# Altium integrated library TI Power Management Linear Regulator Dual Channel LDO.IntLib: 299 symbols (part 5 of 15)
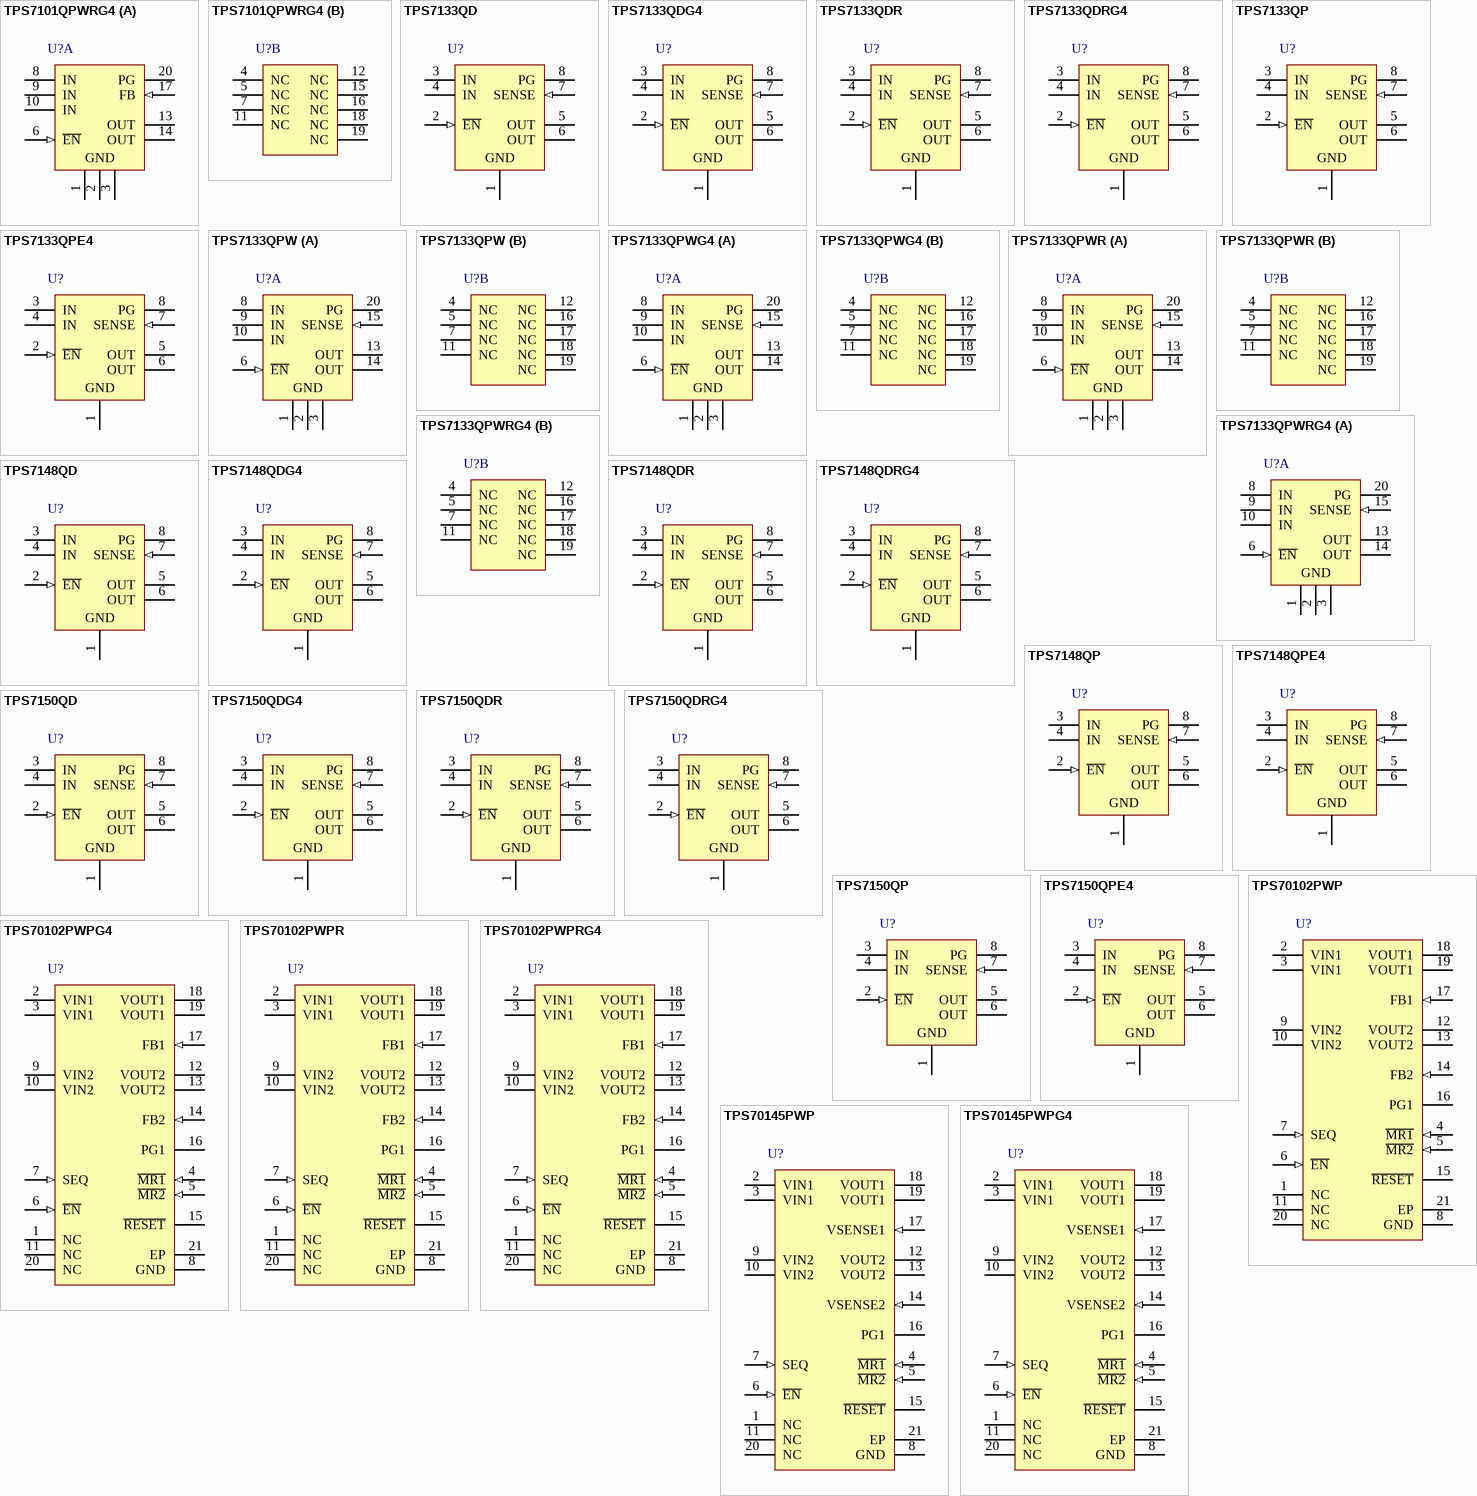
[diagram p15: symbols TPS7101QPWRG4 to TPS70145PWPG4]

## TPS7133QPWR
designator U?
PMOS LDO, 500 mA, 3.77 to 10 V Input, 20-pin TSSOP (PW), -40 to 125 degC, Green (RoHS & no Sb/Br); Manufacturer: Texas Instruments; PartNumber: TPS7133QPWR; Iout(Max)(A): 0.5; Iq(Typ)(mA): 0.28; SubFamily: Dual Channel LDO; Vdo(Typ)(mV): 235; Vin(Max)(V): 10; Vin(Min)(V): 3.77; Vout(Max)(V): 3.3; DatasheetVersion: SLVS092G; PackageVersion: 4040064-5/G; PackageReference: PW20; PackageDescription: 20-Pin Plastic Small Outline, Body 6.5 x 4.4 mm, 0.65 mm Pitch; Supplier 1: Digi-Key; Supplier Part Number 1: 296-8047-2-ND; Supplier 2: Digi-Key; Supplier Part Number 2: 296-8047-1-ND; Supplier 3: Digi-Key; Supplier Part Number 3: 296-8047-6-ND; Supplier 4: Mouser; Supplier Part Number 4: 595-TPS7133QPWR; Eco-Plan: Green (RoHS & no Sb/Br); Vout(Min)(V): 3.3; Mounting Technology: Surface Mount; Code_JEDEC: MO-153; ComponentLink1Description: Manufacturer URL; ComponentLink1URL: http://www.ti.com/; ComponentLink2Description: Datasheet; ComponentLink2URL: http://www.ti.com/general/docs/lit/getliterature.tsp?genericPartNumber=TPS7133&fileType=pdf; ComponentLink3Description: Package Specification; ComponentLink3URL: http://www.ti.com.cn/cn/lit/ml/mpds362/mpds362.pdf
footprint TI-PW20_N (SOP, 20-Leads, Body 6.5x4.4mm, Pitch 0.65mm, IPC Medium Density)
footprint TI-PW20_L (SOP, 20-Leads, Body 6.5x4.4mm, Pitch 0.65mm, IPC High Density)
footprint TI-PW20_M (SOP, 20-Leads, Body 6.5x4.4mm, Pitch 0.65mm, IPC Low Density)
part A pins: 1 GND (power), 2 GND (power), 3 GND (power), 6 ~{EN} (in), 8 IN (power), 9 IN (power), 10 IN (power), 13 OUT (power), 14 OUT (power), 15 SENSE (in), 20 PG (hiz)
part B pins: 4 NC, 5 NC, 7 NC, 11 NC, 12 NC, 16 NC, 17 NC, 18 NC, 19 NC

## TPS7133QPWRG4
designator U?
PMOS LDO, 500 mA, 3.77 to 10 V Input, 20-pin TSSOP (PW), -40 to 125 degC, Green (RoHS & no Sb/Br); Manufacturer: Texas Instruments; PartNumber: TPS7133QPWRG4; Iout(Max)(A): 0.5; Iq(Typ)(mA): 0.28; SubFamily: Dual Channel LDO; Vdo(Typ)(mV): 235; Vin(Max)(V): 10; Vin(Min)(V): 3.77; Vout(Max)(V): 3.3; DatasheetVersion: SLVS092G; PackageVersion: 4040064-5/G; PackageReference: PW20; PackageDescription: 20-Pin Plastic Small Outline, Body 6.5 x 4.4 mm, 0.65 mm Pitch; Supplier 1: Digi-Key; Supplier Part Number 1: TPS7133QPWRG4-ND; Supplier 2: Mouser; Supplier Part Number 2: 595-TPS7133QPWRG4; Eco-Plan: Green (RoHS & no Sb/Br); Vout(Min)(V): 3.3; Mounting Technology: Surface Mount; Code_JEDEC: MO-153; ComponentLink1Description: Manufacturer URL; ComponentLink1URL: http://www.ti.com/; ComponentLink2Description: Datasheet; ComponentLink2URL: http://www.ti.com/general/docs/lit/getliterature.tsp?genericPartNumber=TPS7133&fileType=pdf; ComponentLink3Description: Package Specification; ComponentLink3URL: http://www.ti.com.cn/cn/lit/ml/mpds362/mpds362.pdf
footprint TI-PW20_N (SOP, 20-Leads, Body 6.5x4.4mm, Pitch 0.65mm, IPC Medium Density)
footprint TI-PW20_L (SOP, 20-Leads, Body 6.5x4.4mm, Pitch 0.65mm, IPC High Density)
footprint TI-PW20_M (SOP, 20-Leads, Body 6.5x4.4mm, Pitch 0.65mm, IPC Low Density)
part A pins: 1 GND (power), 2 GND (power), 3 GND (power), 6 ~{EN} (in), 8 IN (power), 9 IN (power), 10 IN (power), 13 OUT (power), 14 OUT (power), 15 SENSE (in), 20 PG (hiz)
part B pins: 4 NC, 5 NC, 7 NC, 11 NC, 12 NC, 16 NC, 17 NC, 18 NC, 19 NC

## TPS7148QD
designator U?
PMOS LDO, 500 mA, 5.2 to 10 V Input, 8-pin SOIC (D), -40 to 125 degC, Green (RoHS & no Sb/Br); Manufacturer: Texas Instruments; PartNumber: TPS7148QD; Iout(Max)(A): 0.5; Iq(Typ)(mA): 0.28; SubFamily: Dual Channel LDO; Vdo(Typ)(mV): 235; Vin(Max)(V): 10; Vin(Min)(V): 5.2; Vout(Max)(V): 4.8; DatasheetVersion: SLVS092G; PackageVersion: 4040047-3/M; PackageReference: D8; PackageDescription: 8-Pin Plastic Small Outline, Body 4.9 x 3.9 mm, Pitch 1.27 mm; Supplier 1: Digi-Key; Supplier Part Number 1: 296-1961-5-ND; Supplier 2: Newark; Supplier Part Number 2: 83F9172; Supplier 3: Mouser; Supplier Part Number 3: 595-TPS7148QD; Eco-Plan: Green (RoHS & no Sb/Br); Vout(Min)(V): 4.8; Mounting Technology: Surface Mount; Code_JEDEC: MS-012; ComponentLink1Description: Manufacturer URL; ComponentLink1URL: http://www.ti.com/; ComponentLink2Description: Datasheet; ComponentLink2URL: http://www.ti.com/general/docs/lit/getliterature.tsp?genericPartNumber=TPS7148&fileType=pdf; ComponentLink3Description: Package Specification; ComponentLink3URL: http://www.ti.com/litv/pdf/msoi002j
footprint TI-D8_N (SOIC, 8-Leads, Body 4.9x3.9mm, Pitch 1.27mm, IPC Medium Density)
footprint TI-D8_L (SOIC, 8-Leads, Body 4.9x3.9mm, Pitch 1.27mm, IPC High Density)
footprint TI-D8_M (SOIC, 8-Leads, Body 4.9x3.9mm, Pitch 1.27mm, IPC Low Density)
pins: 1 GND (power), 2 ~{EN} (in), 3 IN (power), 4 IN (power), 5 OUT (power), 6 OUT (power), 7 SENSE (in), 8 PG (hiz)

## TPS7148QDG4
designator U?
PMOS LDO, 500 mA, 5.2 to 10 V Input, 8-pin SOIC (D), -40 to 125 degC, Green (RoHS & no Sb/Br); Manufacturer: Texas Instruments; PartNumber: TPS7148QDG4; Iout(Max)(A): 0.5; Iq(Typ)(mA): 0.28; SubFamily: Dual Channel LDO; Vdo(Typ)(mV): 235; Vin(Max)(V): 10; Vin(Min)(V): 5.2; Vout(Max)(V): 4.8; DatasheetVersion: SLVS092G; PackageVersion: 4040047-3/M; PackageReference: D8; PackageDescription: 8-Pin Plastic Small Outline, Body 4.9 x 3.9 mm, Pitch 1.27 mm; Supplier 1: Digi-Key; Supplier Part Number 1: TPS7148QDG4-ND; Supplier 2: Mouser; Supplier Part Number 2: 595-TPS7148QDG4; Eco-Plan: Green (RoHS & no Sb/Br); Vout(Min)(V): 4.8; Mounting Technology: Surface Mount; Code_JEDEC: MS-012; ComponentLink1Description: Manufacturer URL; ComponentLink1URL: http://www.ti.com/; ComponentLink2Description: Datasheet; ComponentLink2URL: http://www.ti.com/general/docs/lit/getliterature.tsp?genericPartNumber=TPS7148&fileType=pdf; ComponentLink3Description: Package Specification; ComponentLink3URL: http://www.ti.com/litv/pdf/msoi002j
footprint TI-D8_N (SOIC, 8-Leads, Body 4.9x3.9mm, Pitch 1.27mm, IPC Medium Density)
footprint TI-D8_L (SOIC, 8-Leads, Body 4.9x3.9mm, Pitch 1.27mm, IPC High Density)
footprint TI-D8_M (SOIC, 8-Leads, Body 4.9x3.9mm, Pitch 1.27mm, IPC Low Density)
pins: 1 GND (power), 2 ~{EN} (in), 3 IN (power), 4 IN (power), 5 OUT (power), 6 OUT (power), 7 SENSE (in), 8 PG (hiz)

## TPS7148QDR
designator U?
PMOS LDO, 500 mA, 5.2 to 10 V Input, 8-pin SOIC (D), -40 to 125 degC, Green (RoHS & no Sb/Br); Manufacturer: Texas Instruments; PartNumber: TPS7148QDR; Iout(Max)(A): 0.5; Iq(Typ)(mA): 0.28; SubFamily: Dual Channel LDO; Vdo(Typ)(mV): 235; Vin(Max)(V): 10; Vin(Min)(V): 5.2; Vout(Max)(V): 4.8; DatasheetVersion: SLVS092G; PackageVersion: 4040047-3/M; PackageReference: D8; PackageDescription: 8-Pin Plastic Small Outline, Body 4.9 x 3.9 mm, Pitch 1.27 mm; Supplier 1: Digi-Key; Supplier Part Number 1: TPS7148QDR-ND; Supplier 2: Farnell; Supplier Part Number 2: 1412669; Supplier 3: Mouser; Supplier Part Number 3: 595-TPS7148QDR; Eco-Plan: Green (RoHS & no Sb/Br); Vout(Min)(V): 4.8; Mounting Technology: Surface Mount; Code_JEDEC: MS-012; ComponentLink1Description: Manufacturer URL; ComponentLink1URL: http://www.ti.com/; ComponentLink2Description: Datasheet; ComponentLink2URL: http://www.ti.com/general/docs/lit/getliterature.tsp?genericPartNumber=TPS7148&fileType=pdf; ComponentLink3Description: Package Specification; ComponentLink3URL: http://www.ti.com/litv/pdf/msoi002j
footprint TI-D8_N (SOIC, 8-Leads, Body 4.9x3.9mm, Pitch 1.27mm, IPC Medium Density)
footprint TI-D8_L (SOIC, 8-Leads, Body 4.9x3.9mm, Pitch 1.27mm, IPC High Density)
footprint TI-D8_M (SOIC, 8-Leads, Body 4.9x3.9mm, Pitch 1.27mm, IPC Low Density)
pins: 1 GND (power), 2 ~{EN} (in), 3 IN (power), 4 IN (power), 5 OUT (power), 6 OUT (power), 7 SENSE (in), 8 PG (hiz)

## TPS7148QDRG4
designator U?
PMOS LDO, 500 mA, 5.2 to 10 V Input, 8-pin SOIC (D), -40 to 125 degC, Green (RoHS & no Sb/Br); Manufacturer: Texas Instruments; PartNumber: TPS7148QDRG4; Iout(Max)(A): 0.5; Iq(Typ)(mA): 0.28; SubFamily: Dual Channel LDO; Vdo(Typ)(mV): 235; Vin(Max)(V): 10; Vin(Min)(V): 5.2; Vout(Max)(V): 4.8; DatasheetVersion: SLVS092G; PackageVersion: 4040047-3/M; PackageReference: D8; PackageDescription: 8-Pin Plastic Small Outline, Body 4.9 x 3.9 mm, Pitch 1.27 mm; Supplier 1: Digi-Key; Supplier Part Number 1: TPS7148QDRG4-ND; Supplier 2: Mouser; Supplier Part Number 2: 595-TPS7148QDRG4; Eco-Plan: Green (RoHS & no Sb/Br); Vout(Min)(V): 4.8; Mounting Technology: Surface Mount; Code_JEDEC: MS-012; ComponentLink1Description: Manufacturer URL; ComponentLink1URL: http://www.ti.com/; ComponentLink2Description: Datasheet; ComponentLink2URL: http://www.ti.com/general/docs/lit/getliterature.tsp?genericPartNumber=TPS7148&fileType=pdf; ComponentLink3Description: Package Specification; ComponentLink3URL: http://www.ti.com/litv/pdf/msoi002j
footprint TI-D8_N (SOIC, 8-Leads, Body 4.9x3.9mm, Pitch 1.27mm, IPC Medium Density)
footprint TI-D8_L (SOIC, 8-Leads, Body 4.9x3.9mm, Pitch 1.27mm, IPC High Density)
footprint TI-D8_M (SOIC, 8-Leads, Body 4.9x3.9mm, Pitch 1.27mm, IPC Low Density)
pins: 1 GND (power), 2 ~{EN} (in), 3 IN (power), 4 IN (power), 5 OUT (power), 6 OUT (power), 7 SENSE (in), 8 PG (hiz)

## TPS7148QP
designator U?
PMOS LDO, 500 mA, 5.2 to 10 V Input, 8-pin PDIP (P), -40 to 125 degC, Pb-Free (RoHS); Manufacturer: Texas Instruments; PartNumber: TPS7148QP; Iout(Max)(A): 0.5; Iq(Typ)(mA): 0.28; SubFamily: Dual Channel LDO; Vdo(Typ)(mV): 235; Vin(Max)(V): 10; Vin(Min)(V): 5.2; Vout(Max)(V): 4.8; DatasheetVersion: SLVS092G; PackageVersion: 4040082/E; PackageReference: P8; PackageDescription: 8-Pin Plastic In-Line, Body 9.59 x 6.35 mm, 2.54 mm Pitch; Supplier 1: Digi-Key; Supplier Part Number 1: 296-8048-5-ND; Supplier 2: Mouser; Supplier Part Number 2: 595-TPS7148QP; Eco-Plan: Pb-Free (RoHS); Vout(Min)(V): 4.8; Mounting Technology: Through Hole; Code_JEDEC: MS-001; ComponentLink1Description: Manufacturer URL; ComponentLink1URL: http://www.ti.com/; ComponentLink2Description: Datasheet; ComponentLink2URL: http://www.ti.com/general/docs/lit/getliterature.tsp?genericPartNumber=TPS7148&fileType=pdf; ComponentLink3Description: Package Specification; ComponentLink3URL: http://www.ti.com/litv/pdf/mpdi001b
footprint TI-P8 (DIP, 8-Leads, Body 9.59x6.35mm, Pitch 2.54mm)
pins: 1 GND (power), 2 ~{EN} (in), 3 IN (power), 4 IN (power), 5 OUT (power), 6 OUT (power), 7 SENSE (in), 8 PG (hiz)

## TPS7148QPE4
designator U?
PMOS LDO, 500 mA, 5.2 to 10 V Input, 8-pin PDIP (P), -40 to 125 degC, Pb-Free (RoHS); Manufacturer: Texas Instruments; PartNumber: TPS7148QPE4; Iout(Max)(A): 0.5; Iq(Typ)(mA): 0.28; SubFamily: Dual Channel LDO; Vdo(Typ)(mV): 235; Vin(Max)(V): 10; Vin(Min)(V): 5.2; Vout(Max)(V): 4.8; DatasheetVersion: SLVS092G; PackageVersion: 4040082/E; PackageReference: P8; PackageDescription: 8-Pin Plastic In-Line, Body 9.59 x 6.35 mm, 2.54 mm Pitch; Supplier 1: Digi-Key; Supplier Part Number 1: TPS7148QPE4-ND; Supplier 2: Mouser; Supplier Part Number 2: 595-TPS7148QPE4; Eco-Plan: Pb-Free (RoHS); Vout(Min)(V): 4.8; Mounting Technology: Through Hole; Code_JEDEC: MS-001; ComponentLink1Description: Manufacturer URL; ComponentLink1URL: http://www.ti.com/; ComponentLink2Description: Datasheet; ComponentLink2URL: http://www.ti.com/general/docs/lit/getliterature.tsp?genericPartNumber=TPS7148&fileType=pdf; ComponentLink3Description: Package Specification; ComponentLink3URL: http://www.ti.com/litv/pdf/mpdi001b
footprint TI-P8 (DIP, 8-Leads, Body 9.59x6.35mm, Pitch 2.54mm)
pins: 1 GND (power), 2 ~{EN} (in), 3 IN (power), 4 IN (power), 5 OUT (power), 6 OUT (power), 7 SENSE (in), 8 PG (hiz)

## TPS7150QD
designator U?
PMOS LDO, 500 mA, 5.3 to 10 V Input, 8-pin SOIC (D), -40 to 125 degC, Green (RoHS & no Sb/Br); Manufacturer: Texas Instruments; PartNumber: TPS7150QD; Iout(Max)(A): 0.5; Iq(Typ)(mA): 0.28; SubFamily: Dual Channel LDO; Vdo(Typ)(mV): 235; Vin(Max)(V): 10; Vin(Min)(V): 5.3; Vout(Max)(V): 5; DatasheetVersion: SLVS092G; PackageVersion: 4040047-3/M; PackageReference: D8; PackageDescription: 8-Pin Plastic Small Outline, Body 4.9 x 3.9 mm, Pitch 1.27 mm; Supplier 1: Digi-Key; Supplier Part Number 1: 296-8049-5-ND; Supplier 2: Newark; Supplier Part Number 2: 67K1292; Supplier 3: Mouser; Supplier Part Number 3: 595-TPS7150QD; Eco-Plan: Green (RoHS & no Sb/Br); Vout(Min)(V): 5; Mounting Technology: Surface Mount; Code_JEDEC: MS-012; ComponentLink1Description: Manufacturer URL; ComponentLink1URL: http://www.ti.com/; ComponentLink2Description: Datasheet; ComponentLink2URL: http://www.ti.com/general/docs/lit/getliterature.tsp?genericPartNumber=TPS7150&fileType=pdf; ComponentLink3Description: Package Specification; ComponentLink3URL: http://www.ti.com/litv/pdf/msoi002j
footprint TI-D8_N (SOIC, 8-Leads, Body 4.9x3.9mm, Pitch 1.27mm, IPC Medium Density)
footprint TI-D8_L (SOIC, 8-Leads, Body 4.9x3.9mm, Pitch 1.27mm, IPC High Density)
footprint TI-D8_M (SOIC, 8-Leads, Body 4.9x3.9mm, Pitch 1.27mm, IPC Low Density)
pins: 1 GND (power), 2 ~{EN} (in), 3 IN (power), 4 IN (power), 5 OUT (power), 6 OUT (power), 7 SENSE (in), 8 PG (hiz)

## TPS7150QDG4
designator U?
PMOS LDO, 500 mA, 5.3 to 10 V Input, 8-pin SOIC (D), -40 to 125 degC, Green (RoHS & no Sb/Br); Manufacturer: Texas Instruments; PartNumber: TPS7150QDG4; Iout(Max)(A): 0.5; Iq(Typ)(mA): 0.28; SubFamily: Dual Channel LDO; Vdo(Typ)(mV): 235; Vin(Max)(V): 10; Vin(Min)(V): 5.3; Vout(Max)(V): 5; DatasheetVersion: SLVS092G; PackageVersion: 4040047-3/M; PackageReference: D8; PackageDescription: 8-Pin Plastic Small Outline, Body 4.9 x 3.9 mm, Pitch 1.27 mm; Supplier 1: Digi-Key; Supplier Part Number 1: TPS7150QDG4-ND; Supplier 2: Newark; Supplier Part Number 2: 58K6960; Supplier 3: Mouser; Supplier Part Number 3: 595-TPS7150QDG4; Eco-Plan: Green (RoHS & no Sb/Br); Vout(Min)(V): 5; Mounting Technology: Surface Mount; Code_JEDEC: MS-012; ComponentLink1Description: Manufacturer URL; ComponentLink1URL: http://www.ti.com/; ComponentLink2Description: Datasheet; ComponentLink2URL: http://www.ti.com/general/docs/lit/getliterature.tsp?genericPartNumber=TPS7150&fileType=pdf; ComponentLink3Description: Package Specification; ComponentLink3URL: http://www.ti.com/litv/pdf/msoi002j
footprint TI-D8_N (SOIC, 8-Leads, Body 4.9x3.9mm, Pitch 1.27mm, IPC Medium Density)
footprint TI-D8_L (SOIC, 8-Leads, Body 4.9x3.9mm, Pitch 1.27mm, IPC High Density)
footprint TI-D8_M (SOIC, 8-Leads, Body 4.9x3.9mm, Pitch 1.27mm, IPC Low Density)
pins: 1 GND (power), 2 ~{EN} (in), 3 IN (power), 4 IN (power), 5 OUT (power), 6 OUT (power), 7 SENSE (in), 8 PG (hiz)

## TPS7150QDR
designator U?
PMOS LDO, 500 mA, 5.3 to 10 V Input, 8-pin SOIC (D), -40 to 125 degC, Green (RoHS & no Sb/Br); Manufacturer: Texas Instruments; PartNumber: TPS7150QDR; Iout(Max)(A): 0.5; Iq(Typ)(mA): 0.28; SubFamily: Dual Channel LDO; Vdo(Typ)(mV): 235; Vin(Max)(V): 10; Vin(Min)(V): 5.3; Vout(Max)(V): 5; DatasheetVersion: SLVS092G; PackageVersion: 4040047-3/M; PackageReference: D8; PackageDescription: 8-Pin Plastic Small Outline, Body 4.9 x 3.9 mm, Pitch 1.27 mm; Supplier 1: Digi-Key; Supplier Part Number 1: TPS7150QDR-ND; Supplier 2: Newark; Supplier Part Number 2: 77C0810; Supplier 3: Mouser; Supplier Part Number 3: 595-TPS7150QDR; Eco-Plan: Green (RoHS & no Sb/Br); Vout(Min)(V): 5; Mounting Technology: Surface Mount; Code_JEDEC: MS-012; ComponentLink1Description: Manufacturer URL; ComponentLink1URL: http://www.ti.com/; ComponentLink2Description: Datasheet; ComponentLink2URL: http://www.ti.com/general/docs/lit/getliterature.tsp?genericPartNumber=TPS7150&fileType=pdf; ComponentLink3Description: Package Specification; ComponentLink3URL: http://www.ti.com/litv/pdf/msoi002j
footprint TI-D8_N (SOIC, 8-Leads, Body 4.9x3.9mm, Pitch 1.27mm, IPC Medium Density)
footprint TI-D8_L (SOIC, 8-Leads, Body 4.9x3.9mm, Pitch 1.27mm, IPC High Density)
footprint TI-D8_M (SOIC, 8-Leads, Body 4.9x3.9mm, Pitch 1.27mm, IPC Low Density)
pins: 1 GND (power), 2 ~{EN} (in), 3 IN (power), 4 IN (power), 5 OUT (power), 6 OUT (power), 7 SENSE (in), 8 PG (hiz)

## TPS7150QDRG4
designator U?
PMOS LDO, 500 mA, 5.3 to 10 V Input, 8-pin SOIC (D), -40 to 125 degC, Green (RoHS & no Sb/Br); Manufacturer: Texas Instruments; PartNumber: TPS7150QDRG4; Iout(Max)(A): 0.5; Iq(Typ)(mA): 0.28; SubFamily: Dual Channel LDO; Vdo(Typ)(mV): 235; Vin(Max)(V): 10; Vin(Min)(V): 5.3; Vout(Max)(V): 5; DatasheetVersion: SLVS092G; PackageVersion: 4040047-3/M; PackageReference: D8; PackageDescription: 8-Pin Plastic Small Outline, Body 4.9 x 3.9 mm, Pitch 1.27 mm; Supplier 1: Digi-Key; Supplier Part Number 1: TPS7150QDRG4-ND; Supplier 2: Newark; Supplier Part Number 2: 33K7683; Supplier 3: Mouser; Supplier Part Number 3: 595-TPS7150QDRG4; Eco-Plan: Green (RoHS & no Sb/Br); Vout(Min)(V): 5; Mounting Technology: Surface Mount; Code_JEDEC: MS-012; ComponentLink1Description: Manufacturer URL; ComponentLink1URL: http://www.ti.com/; ComponentLink2Description: Datasheet; ComponentLink2URL: http://www.ti.com/general/docs/lit/getliterature.tsp?genericPartNumber=TPS7150&fileType=pdf; ComponentLink3Description: Package Specification; ComponentLink3URL: http://www.ti.com/litv/pdf/msoi002j
footprint TI-D8_N (SOIC, 8-Leads, Body 4.9x3.9mm, Pitch 1.27mm, IPC Medium Density)
footprint TI-D8_L (SOIC, 8-Leads, Body 4.9x3.9mm, Pitch 1.27mm, IPC High Density)
footprint TI-D8_M (SOIC, 8-Leads, Body 4.9x3.9mm, Pitch 1.27mm, IPC Low Density)
pins: 1 GND (power), 2 ~{EN} (in), 3 IN (power), 4 IN (power), 5 OUT (power), 6 OUT (power), 7 SENSE (in), 8 PG (hiz)

## TPS7150QP
designator U?
PMOS LDO, 500 mA, 5.3 to 10 V Input, 8-pin PDIP (P), -40 to 125 degC, Pb-Free (RoHS); Manufacturer: Texas Instruments; PartNumber: TPS7150QP; Iout(Max)(A): 0.5; Iq(Typ)(mA): 0.28; SubFamily: Dual Channel LDO; Vdo(Typ)(mV): 235; Vin(Max)(V): 10; Vin(Min)(V): 5.3; Vout(Max)(V): 5; DatasheetVersion: SLVS092G; PackageVersion: 4040082/E; PackageReference: P8; PackageDescription: 8-Pin Plastic In-Line, Body 9.59 x 6.35 mm, 2.54 mm Pitch; Supplier 1: Digi-Key; Supplier Part Number 1: 296-8050-5-ND; Supplier 2: Newark; Supplier Part Number 2: 35K1335; Supplier 3: Mouser; Supplier Part Number 3: 595-TPS7150QP; Eco-Plan: Pb-Free (RoHS); Vout(Min)(V): 5; Mounting Technology: Through Hole; Code_JEDEC: MS-001; ComponentLink1Description: Manufacturer URL; ComponentLink1URL: http://www.ti.com/; ComponentLink2Description: Datasheet; ComponentLink2URL: http://www.ti.com/general/docs/lit/getliterature.tsp?genericPartNumber=TPS7150&fileType=pdf; ComponentLink3Description: Package Specification; ComponentLink3URL: http://www.ti.com/litv/pdf/mpdi001b
footprint TI-P8 (DIP, 8-Leads, Body 9.59x6.35mm, Pitch 2.54mm)
pins: 1 GND (power), 2 ~{EN} (in), 3 IN (power), 4 IN (power), 5 OUT (power), 6 OUT (power), 7 SENSE (in), 8 PG (hiz)

## TPS7150QPE4
designator U?
PMOS LDO, 500 mA, 5.3 to 10 V Input, 8-pin PDIP (P), -40 to 125 degC, Pb-Free (RoHS); Manufacturer: Texas Instruments; PartNumber: TPS7150QPE4; Iout(Max)(A): 0.5; Iq(Typ)(mA): 0.28; SubFamily: Dual Channel LDO; Vdo(Typ)(mV): 235; Vin(Max)(V): 10; Vin(Min)(V): 5.3; Vout(Max)(V): 5; DatasheetVersion: SLVS092G; PackageVersion: 4040082/E; PackageReference: P8; PackageDescription: 8-Pin Plastic In-Line, Body 9.59 x 6.35 mm, 2.54 mm Pitch; Supplier 1: Digi-Key; Supplier Part Number 1: TPS7150QPE4-ND; Supplier 2: Newark; Supplier Part Number 2: 24K6082; Supplier 3: Mouser; Supplier Part Number 3: 595-TPS7150QPE4; Eco-Plan: Pb-Free (RoHS); Vout(Min)(V): 5; Mounting Technology: Through Hole; Code_JEDEC: MS-001; ComponentLink1Description: Manufacturer URL; ComponentLink1URL: http://www.ti.com/; ComponentLink2Description: Datasheet; ComponentLink2URL: http://www.ti.com/general/docs/lit/getliterature.tsp?genericPartNumber=TPS7150&fileType=pdf; ComponentLink3Description: Package Specification; ComponentLink3URL: http://www.ti.com/litv/pdf/mpdi001b
footprint TI-P8 (DIP, 8-Leads, Body 9.59x6.35mm, Pitch 2.54mm)
pins: 1 GND (power), 2 ~{EN} (in), 3 IN (power), 4 IN (power), 5 OUT (power), 6 OUT (power), 7 SENSE (in), 8 PG (hiz)

## TPS70102PWP
designator U?
Dual Output LDO, 500 mA, 2.7 to 6 V Input, 20-pin HTSSOP (PWP), -40 to 125 degC, Green (RoHS & no Sb/Br); Manufacturer: Texas Instruments; PartNumber: TPS70102PWP; Iout(Max)(A): 0.5; Iout2(A): 0.2; Iq(Typ)(mA): 0.19; SubFamily: Dual Channel LDO; Vdo(Typ)(mV): 170; Vin(Max)(V): 6; Vin(Min)(V): 2.7; Vout(Max)(V): 5.5; Vout(Min)(V): 1.2; DatasheetVersion: SLVS222I; PackageVersion: 4073225-4/I; PackageReference: PWP20-3005X2005TP; PackageDescription: 20-Pin Plastic Small Outline, Body 6.50 x 4.40 mm, Pitch 0.65 mm; Supplier 1: Digi-Key; Supplier Part Number 1: 296-2652-5-ND; Supplier 2: Newark; Supplier Part Number 2: 19C9066; Supplier 3: Mouser; Supplier Part Number 3: 595-TPS70102PWP; Eco-Plan: Green (RoHS & no Sb/Br); Vout2(Max)(V): 1.2; Vout2(Min)(V): 1.2; Mounting Technology: Surface Mount; Code_JEDEC: MO-153; ComponentLink1Description: Manufacturer URL; ComponentLink1URL: http://www.ti.com/; ComponentLink2Description: Datasheet; ComponentLink2URL: http://www.ti.com/general/docs/lit/getliterature.tsp?genericPartNumber=TPS70102&fileType=pdf; ComponentLink3Description: Package Specification; ComponentLink3URL: http://www.ti.com/lit/ml/mhts001g/mhts001g.pdf
footprint TI-PWP20-3005X2005TP_N (SOP, 20-Leads, Body 6.5x4.4mm, Pitch 0.65mm, Thermal Pad 3.005 x 2.005mm, IPC Medium Density)
footprint TI-PWP20-3005X2005TP_L (SOP, 20-Leads, Body 6.5x4.4mm, Pitch 0.65mm, Thermal Pad 3.005 x 2.005mm, IPC High Density)
footprint TI-PWP20-3005X2005TP_M (SOP, 20-Leads, Body 6.5x4.4mm, Pitch 0.65mm, Thermal Pad 3.005 x 2.005mm, IPC Low Density)
pins: 1 NC "No connection", 2 VIN1 (power) "Input voltage of regulator 1", 3 VIN1 (power) "Input voltage of regulator 1", 4 ~{MR1} (in) "Manual reset input 1, active low, pulled up internally", 5 ~{MR2} (in) "Manual reset input 2, active low, pulled up internally", 6 ~{EN} (in) "Active low enable", 7 SEQ (in) "Power-up sequence control: SEQ = High, VOUT2 powers up first; SEQ = Low, VOUT1 powers up first, SEQ terminal pulled up internally.", 8 GND (power) "Ground", 9 VIN2 (power) "Input voltage of regulator 2", 10 VIN2 (power) "Input voltage of regulator 2", 11 NC "No connection", 12 VOUT2 (power) "Output voltage of regulator 2", 13 VOUT2 (power) "Output voltage of regulator 2", 14 FB2 (in) "regulator 2 feedback for adjustable", 15 ~{RESET} (hiz) "Open drain output, SVS (power-on reset) signal, active low", 16 PG1 (hiz) "Open drain output, low when VOUT1 voltage is less than 95% of the nominal regulated voltage", 17 FB1 (in) "regulator 2 feedback for adjustable", 18 VOUT1 (power) "Output voltage of regulator 1", 19 VOUT1 (power) "Output voltage of regulator 1", 20 NC "No connection", 21 EP "Thermal Pad"

## TPS70102PWPG4
designator U?
Dual Output LDO, 500 mA, 2.7 to 6 V Input, 20-pin HTSSOP (PWP), -40 to 125 degC, Green (RoHS & no Sb/Br); Manufacturer: Texas Instruments; PartNumber: TPS70102PWPG4; Iout(Max)(A): 0.5; Iout2(A): 0.2; Iq(Typ)(mA): 0.19; SubFamily: Dual Channel LDO; Vdo(Typ)(mV): 170; Vin(Max)(V): 6; Vin(Min)(V): 2.7; Vout(Max)(V): 5.5; Vout(Min)(V): 1.2; DatasheetVersion: SLVS222I; PackageVersion: 4073225-4/I; PackageReference: PWP20-3005X2005TP; PackageDescription: 20-Pin Plastic Small Outline, Body 6.50 x 4.40 mm, Pitch 0.65 mm; Supplier 1: Digi-Key; Supplier Part Number 1: TPS70102PWPG4-ND; Supplier 2: Farnell; Supplier Part Number 2: 1234841; Supplier 3: Newark; Supplier Part Number 3: 13M3294; Supplier 4: Mouser; Supplier Part Number 4: 595-TPS70102PWPG4; Eco-Plan: Green (RoHS & no Sb/Br); Vout2(Max)(V): 1.2; Vout2(Min)(V): 1.2; Mounting Technology: Surface Mount; Code_JEDEC: MO-153; ComponentLink1Description: Manufacturer URL; ComponentLink1URL: http://www.ti.com/; ComponentLink2Description: Datasheet; ComponentLink2URL: http://www.ti.com/general/docs/lit/getliterature.tsp?genericPartNumber=TPS70102&fileType=pdf; ComponentLink3Description: Package Specification; ComponentLink3URL: http://www.ti.com/lit/ml/mhts001g/mhts001g.pdf
footprint TI-PWP20-3005X2005TP_N (SOP, 20-Leads, Body 6.5x4.4mm, Pitch 0.65mm, Thermal Pad 3.005 x 2.005mm, IPC Medium Density)
footprint TI-PWP20-3005X2005TP_L (SOP, 20-Leads, Body 6.5x4.4mm, Pitch 0.65mm, Thermal Pad 3.005 x 2.005mm, IPC High Density)
footprint TI-PWP20-3005X2005TP_M (SOP, 20-Leads, Body 6.5x4.4mm, Pitch 0.65mm, Thermal Pad 3.005 x 2.005mm, IPC Low Density)
pins: 1 NC "No connection", 2 VIN1 (power) "Input voltage of regulator 1", 3 VIN1 (power) "Input voltage of regulator 1", 4 ~{MR1} (in) "Manual reset input 1, active low, pulled up internally", 5 ~{MR2} (in) "Manual reset input 2, active low, pulled up internally", 6 ~{EN} (in) "Active low enable", 7 SEQ (in) "Power-up sequence control: SEQ = High, VOUT2 powers up first; SEQ = Low, VOUT1 powers up first, SEQ terminal pulled up internally.", 8 GND (power) "Ground", 9 VIN2 (power) "Input voltage of regulator 2", 10 VIN2 (power) "Input voltage of regulator 2", 11 NC "No connection", 12 VOUT2 (power) "Output voltage of regulator 2", 13 VOUT2 (power) "Output voltage of regulator 2", 14 FB2 (in) "regulator 2 feedback for adjustable", 15 ~{RESET} (hiz) "Open drain output, SVS (power-on reset) signal, active low", 16 PG1 (hiz) "Open drain output, low when VOUT1 voltage is less than 95% of the nominal regulated voltage", 17 FB1 (in) "regulator 2 feedback for adjustable", 18 VOUT1 (power) "Output voltage of regulator 1", 19 VOUT1 (power) "Output voltage of regulator 1", 20 NC "No connection", 21 EP "Thermal Pad"

## TPS70102PWPR
designator U?
Dual Output LDO, 500 mA, 2.7 to 6 V Input, 20-pin HTSSOP (PWP), -40 to 125 degC, Green (RoHS & no Sb/Br); Manufacturer: Texas Instruments; PartNumber: TPS70102PWPR; Iout(Max)(A): 0.5; Iout2(A): 0.2; Iq(Typ)(mA): 0.19; SubFamily: Dual Channel LDO; Vdo(Typ)(mV): 170; Vin(Max)(V): 6; Vin(Min)(V): 2.7; Vout(Max)(V): 5.5; Vout(Min)(V): 1.2; DatasheetVersion: SLVS222I; PackageVersion: 4073225-4/I; PackageReference: PWP20-3005X2005TP; PackageDescription: 20-Pin Plastic Small Outline, Body 6.50 x 4.40 mm, Pitch 0.65 mm; Supplier 1: Digi-Key; Supplier Part Number 1: TPS70102PWPR-ND; Supplier 2: Newark; Supplier Part Number 2: 77C0743; Supplier 3: Mouser; Supplier Part Number 3: 595-TPS70102PWPR; Eco-Plan: Green (RoHS & no Sb/Br); Vout2(Max)(V): 1.2; Vout2(Min)(V): 1.2; Mounting Technology: Surface Mount; Code_JEDEC: MO-153; ComponentLink1Description: Manufacturer URL; ComponentLink1URL: http://www.ti.com/; ComponentLink2Description: Datasheet; ComponentLink2URL: http://www.ti.com/general/docs/lit/getliterature.tsp?genericPartNumber=TPS70102&fileType=pdf; ComponentLink3Description: Package Specification; ComponentLink3URL: http://www.ti.com/lit/ml/mhts001g/mhts001g.pdf
footprint TI-PWP20-3005X2005TP_N (SOP, 20-Leads, Body 6.5x4.4mm, Pitch 0.65mm, Thermal Pad 3.005 x 2.005mm, IPC Medium Density)
footprint TI-PWP20-3005X2005TP_L (SOP, 20-Leads, Body 6.5x4.4mm, Pitch 0.65mm, Thermal Pad 3.005 x 2.005mm, IPC High Density)
footprint TI-PWP20-3005X2005TP_M (SOP, 20-Leads, Body 6.5x4.4mm, Pitch 0.65mm, Thermal Pad 3.005 x 2.005mm, IPC Low Density)
pins: 1 NC "No connection", 2 VIN1 (power) "Input voltage of regulator 1", 3 VIN1 (power) "Input voltage of regulator 1", 4 ~{MR1} (in) "Manual reset input 1, active low, pulled up internally", 5 ~{MR2} (in) "Manual reset input 2, active low, pulled up internally", 6 ~{EN} (in) "Active low enable", 7 SEQ (in) "Power-up sequence control: SEQ = High, VOUT2 powers up first; SEQ = Low, VOUT1 powers up first, SEQ terminal pulled up internally.", 8 GND (power) "Ground", 9 VIN2 (power) "Input voltage of regulator 2", 10 VIN2 (power) "Input voltage of regulator 2", 11 NC "No connection", 12 VOUT2 (power) "Output voltage of regulator 2", 13 VOUT2 (power) "Output voltage of regulator 2", 14 FB2 (in) "regulator 2 feedback for adjustable", 15 ~{RESET} (hiz) "Open drain output, SVS (power-on reset) signal, active low", 16 PG1 (hiz) "Open drain output, low when VOUT1 voltage is less than 95% of the nominal regulated voltage", 17 FB1 (in) "regulator 2 feedback for adjustable", 18 VOUT1 (power) "Output voltage of regulator 1", 19 VOUT1 (power) "Output voltage of regulator 1", 20 NC "No connection", 21 EP "Thermal Pad"

## TPS70102PWPRG4
designator U?
Dual Output LDO, 500 mA, 2.7 to 6 V Input, 20-pin HTSSOP (PWP), -40 to 125 degC, Green (RoHS & no Sb/Br); Manufacturer: Texas Instruments; PartNumber: TPS70102PWPRG4; Iout(Max)(A): 0.5; Iout2(A): 0.2; Iq(Typ)(mA): 0.19; SubFamily: Dual Channel LDO; Vdo(Typ)(mV): 170; Vin(Max)(V): 6; Vin(Min)(V): 2.7; Vout(Max)(V): 5.5; Vout(Min)(V): 1.2; DatasheetVersion: SLVS222I; PackageVersion: 4073225-4/I; PackageReference: PWP20-3005X2005TP; PackageDescription: 20-Pin Plastic Small Outline, Body 6.50 x 4.40 mm, Pitch 0.65 mm; Supplier 1: Digi-Key; Supplier Part Number 1: TPS70102PWPRG4-ND; Supplier 2: Mouser; Supplier Part Number 2: 595-TPS70102PWPRG4; Eco-Plan: Green (RoHS & no Sb/Br); Vout2(Max)(V): 1.2; Vout2(Min)(V): 1.2; Mounting Technology: Surface Mount; Code_JEDEC: MO-153; ComponentLink1Description: Manufacturer URL; ComponentLink1URL: http://www.ti.com/; ComponentLink2Description: Datasheet; ComponentLink2URL: http://www.ti.com/general/docs/lit/getliterature.tsp?genericPartNumber=TPS70102&fileType=pdf; ComponentLink3Description: Package Specification; ComponentLink3URL: http://www.ti.com/lit/ml/mhts001g/mhts001g.pdf
footprint TI-PWP20-3005X2005TP_N (SOP, 20-Leads, Body 6.5x4.4mm, Pitch 0.65mm, Thermal Pad 3.005 x 2.005mm, IPC Medium Density)
footprint TI-PWP20-3005X2005TP_L (SOP, 20-Leads, Body 6.5x4.4mm, Pitch 0.65mm, Thermal Pad 3.005 x 2.005mm, IPC High Density)
footprint TI-PWP20-3005X2005TP_M (SOP, 20-Leads, Body 6.5x4.4mm, Pitch 0.65mm, Thermal Pad 3.005 x 2.005mm, IPC Low Density)
pins: 1 NC "No connection", 2 VIN1 (power) "Input voltage of regulator 1", 3 VIN1 (power) "Input voltage of regulator 1", 4 ~{MR1} (in) "Manual reset input 1, active low, pulled up internally", 5 ~{MR2} (in) "Manual reset input 2, active low, pulled up internally", 6 ~{EN} (in) "Active low enable", 7 SEQ (in) "Power-up sequence control: SEQ = High, VOUT2 powers up first; SEQ = Low, VOUT1 powers up first, SEQ terminal pulled up internally.", 8 GND (power) "Ground", 9 VIN2 (power) "Input voltage of regulator 2", 10 VIN2 (power) "Input voltage of regulator 2", 11 NC "No connection", 12 VOUT2 (power) "Output voltage of regulator 2", 13 VOUT2 (power) "Output voltage of regulator 2", 14 FB2 (in) "regulator 2 feedback for adjustable", 15 ~{RESET} (hiz) "Open drain output, SVS (power-on reset) signal, active low", 16 PG1 (hiz) "Open drain output, low when VOUT1 voltage is less than 95% of the nominal regulated voltage", 17 FB1 (in) "regulator 2 feedback for adjustable", 18 VOUT1 (power) "Output voltage of regulator 1", 19 VOUT1 (power) "Output voltage of regulator 1", 20 NC "No connection", 21 EP "Thermal Pad"

## TPS70145PWP
designator U?
Dual Output LDO, 500 mA, Fixed 3.3, 1.2 V Output, 2.7 to 6 V Input, 20-pin HTSSOP (PWP), -40 to 125 degC, Green (RoHS & no Sb/Br); Manufacturer: Texas Instruments; PartNumber: TPS70145PWP; Iout(Max)(A): 0.5; Iout2(A): 0.2; Iq(Typ)(mA): 0.19; SubFamily: Dual Channel LDO; Vdo(Typ)(mV): 170; Vin(Max)(V): 6; Vin(Min)(V): 2.7; Vout(Max)(V): 3.3; Vout2(Max)(V): 1.2; DatasheetVersion: SLVS222I; PackageVersion: 4073225-4/I; PackageReference: PWP20-3005X2005TP; PackageDescription: 20-Pin Plastic Small Outline, Body 6.50 x 4.40 mm, Pitch 0.65 mm; Supplier 1: Digi-Key; Supplier Part Number 1: 296-2653-5-ND; Supplier 2: Newark; Supplier Part Number 2: 19C9067; Supplier 3: Mouser; Supplier Part Number 3: 595-TPS70145PWP; Eco-Plan: Green (RoHS & no Sb/Br); Fixed Output Options(V): 3.3, 1.2; Vout(Min)(V): 3.3; Vout2(Min)(V): 1.2; Mounting Technology: Surface Mount; Code_JEDEC: MO-153; ComponentLink1Description: Manufacturer URL; ComponentLink1URL: http://www.ti.com/; ComponentLink2Description: Datasheet; ComponentLink2URL: http://www.ti.com/general/docs/lit/getliterature.tsp?genericPartNumber=TPS70145&fileType=pdf; ComponentLink3Description: Package Specification; ComponentLink3URL: http://www.ti.com/lit/ml/mhts001g/mhts001g.pdf
footprint TI-PWP20-3005X2005TP_N (SOP, 20-Leads, Body 6.5x4.4mm, Pitch 0.65mm, Thermal Pad 3.005 x 2.005mm, IPC Medium Density)
footprint TI-PWP20-3005X2005TP_L (SOP, 20-Leads, Body 6.5x4.4mm, Pitch 0.65mm, Thermal Pad 3.005 x 2.005mm, IPC High Density)
footprint TI-PWP20-3005X2005TP_M (SOP, 20-Leads, Body 6.5x4.4mm, Pitch 0.65mm, Thermal Pad 3.005 x 2.005mm, IPC Low Density)
pins: 1 NC "No connection", 2 VIN1 (power) "Input voltage of regulator 1", 3 VIN1 (power) "Input voltage of regulator 1", 4 ~{MR1} (in) "Manual reset input 1, active low, pulled up internally", 5 ~{MR2} (in) "Manual reset input 2, active low, pulled up internally", 6 ~{EN} (in) "Active low enable", 7 SEQ (in) "Power-up sequence control: SEQ = High, VOUT2 powers up first; SEQ = Low, VOUT1 powers up first. SEQ terminal pulled up internally.", 8 GND (power) "Ground", 9 VIN2 (power) "Input voltage of regulator 2", 10 VIN2 (power) "Input voltage of regulator 2", 11 NC "No connection", 12 VOUT2 (power) "Output voltage of regulator 2", 13 VOUT2 (power) "Output voltage of regulator 2", 14 VSENSE2 (in) "Regulator 2 output voltage sense", 15 ~{RESET} (hiz) "Open drain output, SVS (power-on reset) signal, active low", 16 PG1 (hiz) "Open drain output, low when VOUT1 voltage is less than 95% of the nominal regulated voltage", 17 VSENSE1 (in) "Regulator 1 output voltage sense", 18 VOUT1 (power) "Output voltage of regulator 1", 19 VOUT1 (power) "Output voltage of regulator 1", 20 NC "No connection", 21 EP (power) "Exposed Thermal Pad"

## TPS70145PWPG4
designator U?
Dual Output LDO, 500 mA, Fixed 3.3, 1.2 V Output, 2.7 to 6 V Input, 20-pin HTSSOP (PWP), -40 to 125 degC, Green (RoHS & no Sb/Br); Manufacturer: Texas Instruments; PartNumber: TPS70145PWPG4; Iout(Max)(A): 0.5; Iout2(A): 0.2; Iq(Typ)(mA): 0.19; SubFamily: Dual Channel LDO; Vdo(Typ)(mV): 170; Vin(Max)(V): 6; Vin(Min)(V): 2.7; Vout(Max)(V): 3.3; Vout2(Max)(V): 1.2; DatasheetVersion: SLVS222I; PackageVersion: 4073225-4/I; PackageReference: PWP20-3005X2005TP; PackageDescription: 20-Pin Plastic Small Outline, Body 6.50 x 4.40 mm, Pitch 0.65 mm; Supplier 1: Digi-Key; Supplier Part Number 1: TPS70145PWPG4-ND; Supplier 2: Farnell; Supplier Part Number 2: 1329600; Supplier 3: Mouser; Supplier Part Number 3: 595-TPS70145PWPG4; Eco-Plan: Green (RoHS & no Sb/Br); Fixed Output Options(V): 3.3, 1.2; Vout(Min)(V): 3.3; Vout2(Min)(V): 1.2; Mounting Technology: Surface Mount; Code_JEDEC: MO-153; ComponentLink1Description: Manufacturer URL; ComponentLink1URL: http://www.ti.com/; ComponentLink2Description: Datasheet; ComponentLink2URL: http://www.ti.com/general/docs/lit/getliterature.tsp?genericPartNumber=TPS70145&fileType=pdf; ComponentLink3Description: Package Specification; ComponentLink3URL: http://www.ti.com/lit/ml/mhts001g/mhts001g.pdf
footprint TI-PWP20-3005X2005TP_N (SOP, 20-Leads, Body 6.5x4.4mm, Pitch 0.65mm, Thermal Pad 3.005 x 2.005mm, IPC Medium Density)
footprint TI-PWP20-3005X2005TP_L (SOP, 20-Leads, Body 6.5x4.4mm, Pitch 0.65mm, Thermal Pad 3.005 x 2.005mm, IPC High Density)
footprint TI-PWP20-3005X2005TP_M (SOP, 20-Leads, Body 6.5x4.4mm, Pitch 0.65mm, Thermal Pad 3.005 x 2.005mm, IPC Low Density)
pins: 1 NC "No connection", 2 VIN1 (power) "Input voltage of regulator 1", 3 VIN1 (power) "Input voltage of regulator 1", 4 ~{MR1} (in) "Manual reset input 1, active low, pulled up internally", 5 ~{MR2} (in) "Manual reset input 2, active low, pulled up internally", 6 ~{EN} (in) "Active low enable", 7 SEQ (in) "Power-up sequence control: SEQ = High, VOUT2 powers up first; SEQ = Low, VOUT1 powers up first. SEQ terminal pulled up internally.", 8 GND (power) "Ground", 9 VIN2 (power) "Input voltage of regulator 2", 10 VIN2 (power) "Input voltage of regulator 2", 11 NC "No connection", 12 VOUT2 (power) "Output voltage of regulator 2", 13 VOUT2 (power) "Output voltage of regulator 2", 14 VSENSE2 (in) "Regulator 2 output voltage sense", 15 ~{RESET} (hiz) "Open drain output, SVS (power-on reset) signal, active low", 16 PG1 (hiz) "Open drain output, low when VOUT1 voltage is less than 95% of the nominal regulated voltage", 17 VSENSE1 (in) "Regulator 1 output voltage sense", 18 VOUT1 (power) "Output voltage of regulator 1", 19 VOUT1 (power) "Output voltage of regulator 1", 20 NC "No connection", 21 EP (power) "Exposed Thermal Pad"

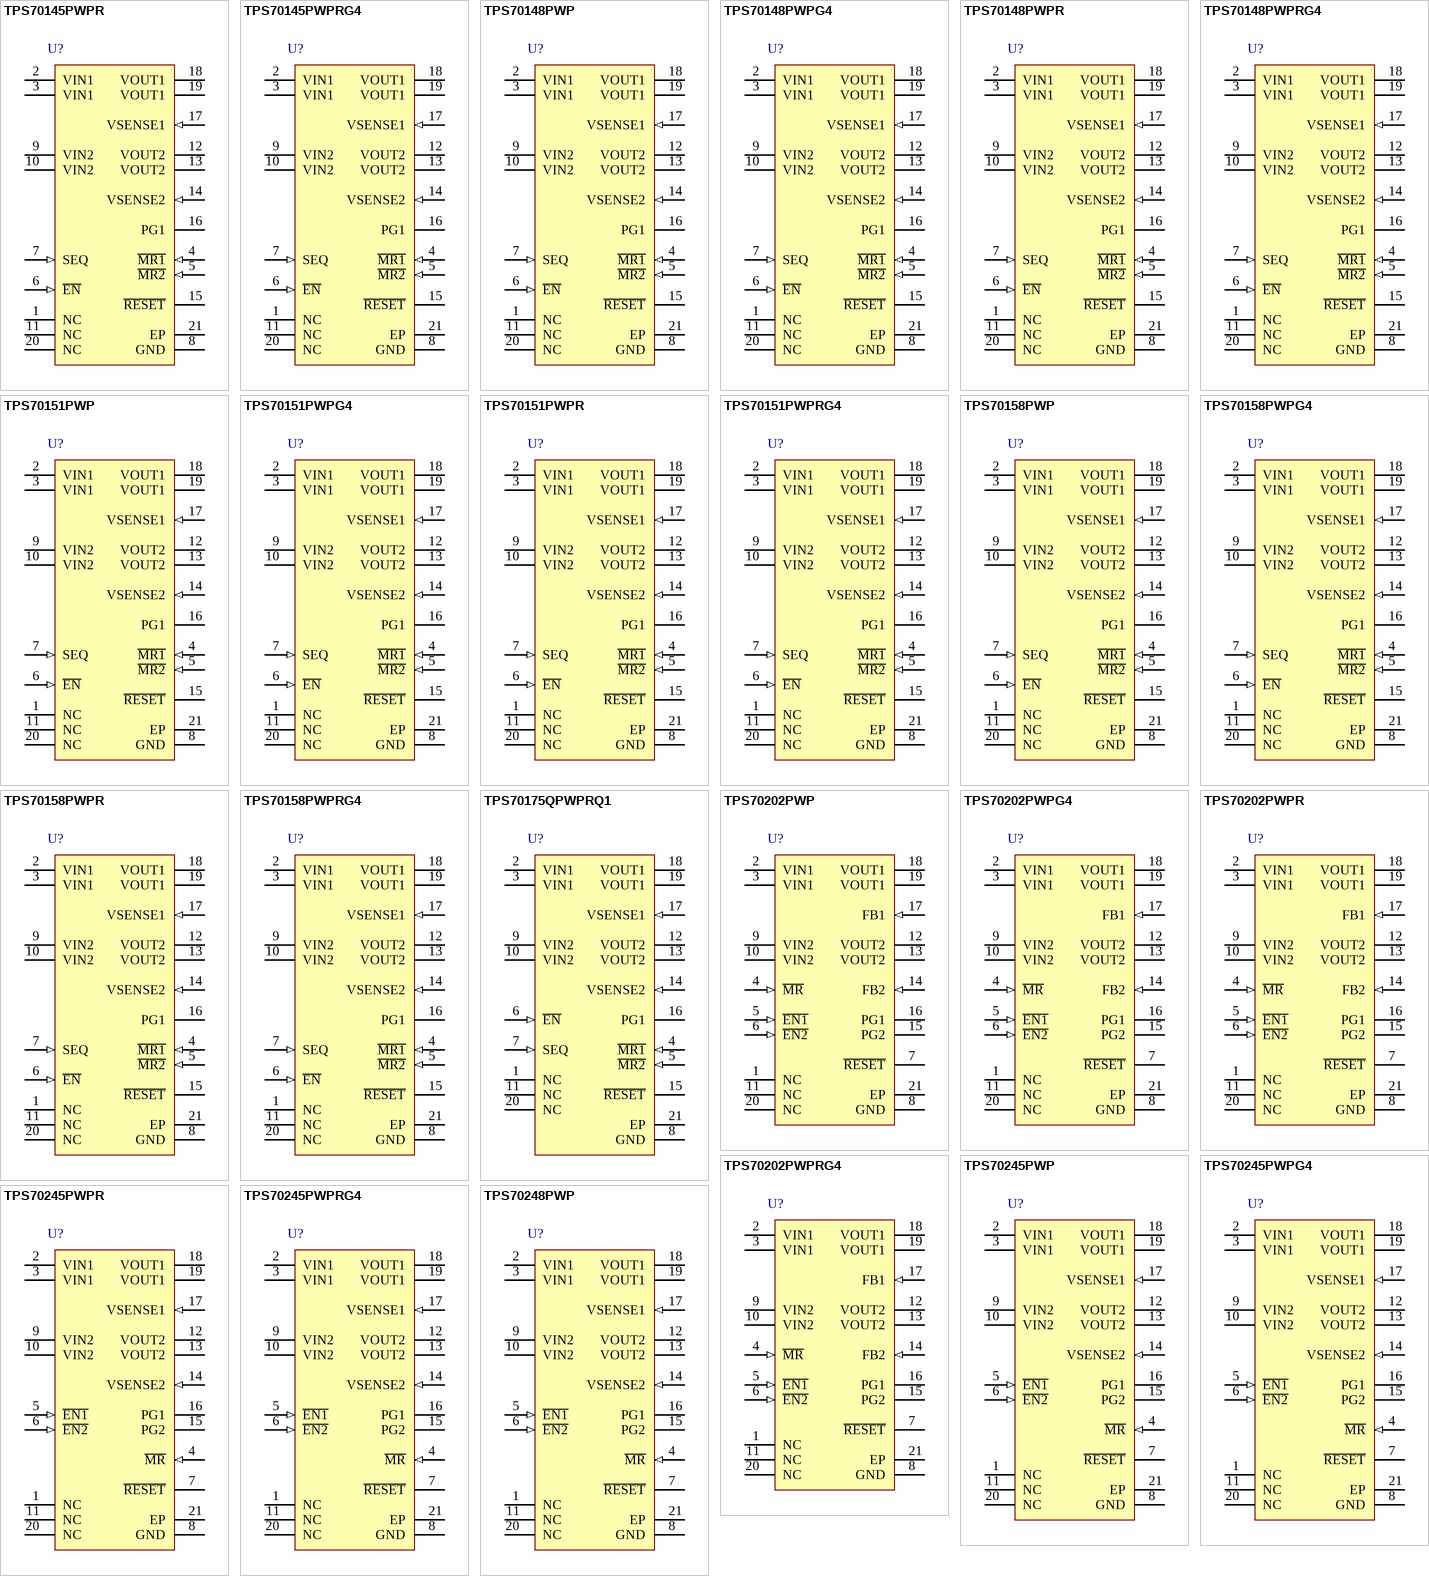
[diagram p4: symbols TPS70145PWPR to TPS70248PWP]

## TPS70145PWPR
designator U?
Dual Output LDO, 500 mA, Fixed 3.3, 1.2 V Output, 2.7 to 6 V Input, 20-pin HTSSOP (PWP), -40 to 125 degC, Green (RoHS & no Sb/Br); Manufacturer: Texas Instruments; PartNumber: TPS70145PWPR; Iout(Max)(A): 0.5; Iout2(A): 0.2; Iq(Typ)(mA): 0.19; SubFamily: Dual Channel LDO; Vdo(Typ)(mV): 170; Vin(Max)(V): 6; Vin(Min)(V): 2.7; Vout(Max)(V): 3.3; Vout2(Max)(V): 1.2; DatasheetVersion: SLVS222I; PackageVersion: 4073225-4/I; PackageReference: PWP20-3005X2005TP; PackageDescription: 20-Pin Plastic Small Outline, Body 6.50 x 4.40 mm, Pitch 0.65 mm; Supplier 1: Digi-Key; Supplier Part Number 1: TPS70145PWPR-ND; Supplier 2: Mouser; Supplier Part Number 2: 595-TPS70145PWPR; Eco-Plan: Green (RoHS & no Sb/Br); Fixed Output Options(V): 3.3, 1.2; Vout(Min)(V): 3.3; Vout2(Min)(V): 1.2; Mounting Technology: Surface Mount; Code_JEDEC: MO-153; ComponentLink1Description: Manufacturer URL; ComponentLink1URL: http://www.ti.com/; ComponentLink2Description: Datasheet; ComponentLink2URL: http://www.ti.com/general/docs/lit/getliterature.tsp?genericPartNumber=TPS70145&fileType=pdf; ComponentLink3Description: Package Specification; ComponentLink3URL: http://www.ti.com/lit/ml/mhts001g/mhts001g.pdf
footprint TI-PWP20-3005X2005TP_N (SOP, 20-Leads, Body 6.5x4.4mm, Pitch 0.65mm, Thermal Pad 3.005 x 2.005mm, IPC Medium Density)
footprint TI-PWP20-3005X2005TP_L (SOP, 20-Leads, Body 6.5x4.4mm, Pitch 0.65mm, Thermal Pad 3.005 x 2.005mm, IPC High Density)
footprint TI-PWP20-3005X2005TP_M (SOP, 20-Leads, Body 6.5x4.4mm, Pitch 0.65mm, Thermal Pad 3.005 x 2.005mm, IPC Low Density)
pins: 1 NC "No connection", 2 VIN1 (power) "Input voltage of regulator 1", 3 VIN1 (power) "Input voltage of regulator 1", 4 ~{MR1} (in) "Manual reset input 1, active low, pulled up internally", 5 ~{MR2} (in) "Manual reset input 2, active low, pulled up internally", 6 ~{EN} (in) "Active low enable", 7 SEQ (in) "Power-up sequence control: SEQ = High, VOUT2 powers up first; SEQ = Low, VOUT1 powers up first. SEQ terminal pulled up internally.", 8 GND (power) "Ground", 9 VIN2 (power) "Input voltage of regulator 2", 10 VIN2 (power) "Input voltage of regulator 2", 11 NC "No connection", 12 VOUT2 (power) "Output voltage of regulator 2", 13 VOUT2 (power) "Output voltage of regulator 2", 14 VSENSE2 (in) "Regulator 2 output voltage sense", 15 ~{RESET} (hiz) "Open drain output, SVS (power-on reset) signal, active low", 16 PG1 (hiz) "Open drain output, low when VOUT1 voltage is less than 95% of the nominal regulated voltage", 17 VSENSE1 (in) "Regulator 1 output voltage sense", 18 VOUT1 (power) "Output voltage of regulator 1", 19 VOUT1 (power) "Output voltage of regulator 1", 20 NC "No connection", 21 EP (power) "Exposed Thermal Pad"

## TPS70145PWPRG4
designator U?
Dual Output LDO, 500 mA, Fixed 3.3, 1.2 V Output, 2.7 to 6 V Input, 20-pin HTSSOP (PWP), -40 to 125 degC, Green (RoHS & no Sb/Br); Manufacturer: Texas Instruments; PartNumber: TPS70145PWPRG4; Iout(Max)(A): 0.5; Iout2(A): 0.2; Iq(Typ)(mA): 0.19; SubFamily: Dual Channel LDO; Vdo(Typ)(mV): 170; Vin(Max)(V): 6; Vin(Min)(V): 2.7; Vout(Max)(V): 3.3; Vout2(Max)(V): 1.2; DatasheetVersion: SLVS222I; PackageVersion: 4073225-4/I; PackageReference: PWP20-3005X2005TP; PackageDescription: 20-Pin Plastic Small Outline, Body 6.50 x 4.40 mm, Pitch 0.65 mm; Supplier 1: Digi-Key; Supplier Part Number 1: TPS70145PWPRG4-ND; Supplier 2: Mouser; Supplier Part Number 2: 595-TPS70145PWPRG4; Eco-Plan: Green (RoHS & no Sb/Br); Fixed Output Options(V): 3.3, 1.2; Vout(Min)(V): 3.3; Vout2(Min)(V): 1.2; Mounting Technology: Surface Mount; Code_JEDEC: MO-153; ComponentLink1Description: Manufacturer URL; ComponentLink1URL: http://www.ti.com/; ComponentLink2Description: Datasheet; ComponentLink2URL: http://www.ti.com/general/docs/lit/getliterature.tsp?genericPartNumber=TPS70145&fileType=pdf; ComponentLink3Description: Package Specification; ComponentLink3URL: http://www.ti.com/lit/ml/mhts001g/mhts001g.pdf
footprint TI-PWP20-3005X2005TP_N (SOP, 20-Leads, Body 6.5x4.4mm, Pitch 0.65mm, Thermal Pad 3.005 x 2.005mm, IPC Medium Density)
footprint TI-PWP20-3005X2005TP_L (SOP, 20-Leads, Body 6.5x4.4mm, Pitch 0.65mm, Thermal Pad 3.005 x 2.005mm, IPC High Density)
footprint TI-PWP20-3005X2005TP_M (SOP, 20-Leads, Body 6.5x4.4mm, Pitch 0.65mm, Thermal Pad 3.005 x 2.005mm, IPC Low Density)
pins: 1 NC "No connection", 2 VIN1 (power) "Input voltage of regulator 1", 3 VIN1 (power) "Input voltage of regulator 1", 4 ~{MR1} (in) "Manual reset input 1, active low, pulled up internally", 5 ~{MR2} (in) "Manual reset input 2, active low, pulled up internally", 6 ~{EN} (in) "Active low enable", 7 SEQ (in) "Power-up sequence control: SEQ = High, VOUT2 powers up first; SEQ = Low, VOUT1 powers up first. SEQ terminal pulled up internally.", 8 GND (power) "Ground", 9 VIN2 (power) "Input voltage of regulator 2", 10 VIN2 (power) "Input voltage of regulator 2", 11 NC "No connection", 12 VOUT2 (power) "Output voltage of regulator 2", 13 VOUT2 (power) "Output voltage of regulator 2", 14 VSENSE2 (in) "Regulator 2 output voltage sense", 15 ~{RESET} (hiz) "Open drain output, SVS (power-on reset) signal, active low", 16 PG1 (hiz) "Open drain output, low when VOUT1 voltage is less than 95% of the nominal regulated voltage", 17 VSENSE1 (in) "Regulator 1 output voltage sense", 18 VOUT1 (power) "Output voltage of regulator 1", 19 VOUT1 (power) "Output voltage of regulator 1", 20 NC "No connection", 21 EP (power) "Exposed Thermal Pad"

## TPS70148PWP
designator U?
Dual Output LDO, 500 mA, Fixed 3.3, 1.5 V Output, 2.7 to 6 V Input, 20-pin HTSSOP (PWP), -40 to 125 degC, Green (RoHS & no Sb/Br); Manufacturer: Texas Instruments; PartNumber: TPS70148PWP; Iout(Max)(A): 0.5; Iout2(A): 0.2; Iq(Typ)(mA): 0.19; SubFamily: Dual Channel LDO; Vdo(Typ)(mV): 170; Vin(Max)(V): 6; Vin(Min)(V): 2.7; Vout(Max)(V): 3.3; Vout2(Max)(V): 1.5; DatasheetVersion: SLVS222I; PackageVersion: 4073225-4/I; PackageReference: PWP20-3005X2005TP; PackageDescription: 20-Pin Plastic Small Outline, Body 6.50 x 4.40 mm, Pitch 0.65 mm; Supplier 1: Digi-Key; Supplier Part Number 1: 296-2654-5-ND; Supplier 2: Newark; Supplier Part Number 2: 19C9068; Supplier 3: Mouser; Supplier Part Number 3: 595-TPS70148PWP; Eco-Plan: Green (RoHS & no Sb/Br); Fixed Output Options(V): 3.3, 1.5; Vout(Min)(V): 3.3; Vout2(Min)(V): 1.5; Mounting Technology: Surface Mount; Code_JEDEC: MO-153; ComponentLink1Description: Manufacturer URL; ComponentLink1URL: http://www.ti.com/; ComponentLink2Description: Datasheet; ComponentLink2URL: http://www.ti.com/general/docs/lit/getliterature.tsp?genericPartNumber=TPS70148&fileType=pdf; ComponentLink3Description: Package Specification; ComponentLink3URL: http://www.ti.com/lit/ml/mhts001g/mhts001g.pdf
footprint TI-PWP20-3005X2005TP_N (SOP, 20-Leads, Body 6.5x4.4mm, Pitch 0.65mm, Thermal Pad 3.005 x 2.005mm, IPC Medium Density)
footprint TI-PWP20-3005X2005TP_L (SOP, 20-Leads, Body 6.5x4.4mm, Pitch 0.65mm, Thermal Pad 3.005 x 2.005mm, IPC High Density)
footprint TI-PWP20-3005X2005TP_M (SOP, 20-Leads, Body 6.5x4.4mm, Pitch 0.65mm, Thermal Pad 3.005 x 2.005mm, IPC Low Density)
pins: 1 NC "No connection", 2 VIN1 (power) "Input voltage of regulator 1", 3 VIN1 (power) "Input voltage of regulator 1", 4 ~{MR1} (in) "Manual reset input 1, active low, pulled up internally", 5 ~{MR2} (in) "Manual reset input 2, active low, pulled up internally", 6 ~{EN} (in) "Active low enable", 7 SEQ (in) "Power-up sequence control: SEQ = High, VOUT2 powers up first; SEQ = Low, VOUT1 powers up first. SEQ terminal pulled up internally.", 8 GND (power) "Ground", 9 VIN2 (power) "Input voltage of regulator 2", 10 VIN2 (power) "Input voltage of regulator 2", 11 NC "No connection", 12 VOUT2 (power) "Output voltage of regulator 2", 13 VOUT2 (power) "Output voltage of regulator 2", 14 VSENSE2 (in) "Regulator 2 output voltage sense", 15 ~{RESET} (hiz) "Open drain output, SVS (power-on reset) signal, active low", 16 PG1 (hiz) "Open drain output, low when VOUT1 voltage is less than 95% of the nominal regulated voltage", 17 VSENSE1 (in) "Regulator 1 output voltage sense", 18 VOUT1 (power) "Output voltage of regulator 1", 19 VOUT1 (power) "Output voltage of regulator 1", 20 NC "No connection", 21 EP (power) "Exposed Thermal Pad"

## TPS70148PWPG4
designator U?
Dual Output LDO, 500 mA, Fixed 3.3, 1.5 V Output, 2.7 to 6 V Input, 20-pin HTSSOP (PWP), -40 to 125 degC, Green (RoHS & no Sb/Br); Manufacturer: Texas Instruments; PartNumber: TPS70148PWPG4; Iout(Max)(A): 0.5; Iout2(A): 0.2; Iq(Typ)(mA): 0.19; SubFamily: Dual Channel LDO; Vdo(Typ)(mV): 170; Vin(Max)(V): 6; Vin(Min)(V): 2.7; Vout(Max)(V): 3.3; Vout2(Max)(V): 1.5; DatasheetVersion: SLVS222I; PackageVersion: 4073225-4/I; PackageReference: PWP20-3005X2005TP; PackageDescription: 20-Pin Plastic Small Outline, Body 6.50 x 4.40 mm, Pitch 0.65 mm; Supplier 1: Digi-Key; Supplier Part Number 1: TPS70148PWPG4-ND; Supplier 2: Farnell; Supplier Part Number 2: 1329602; Supplier 3: Newark; Supplier Part Number 3: 62M0754; Supplier 4: Mouser; Supplier Part Number 4: 595-TPS70148PWPG4; Eco-Plan: Green (RoHS & no Sb/Br); Fixed Output Options(V): 3.3, 1.5; Vout(Min)(V): 3.3; Vout2(Min)(V): 1.5; Mounting Technology: Surface Mount; Code_JEDEC: MO-153; ComponentLink1Description: Manufacturer URL; ComponentLink1URL: http://www.ti.com/; ComponentLink2Description: Datasheet; ComponentLink2URL: http://www.ti.com/general/docs/lit/getliterature.tsp?genericPartNumber=TPS70148&fileType=pdf; ComponentLink3Description: Package Specification; ComponentLink3URL: http://www.ti.com/lit/ml/mhts001g/mhts001g.pdf
footprint TI-PWP20-3005X2005TP_N (SOP, 20-Leads, Body 6.5x4.4mm, Pitch 0.65mm, Thermal Pad 3.005 x 2.005mm, IPC Medium Density)
footprint TI-PWP20-3005X2005TP_L (SOP, 20-Leads, Body 6.5x4.4mm, Pitch 0.65mm, Thermal Pad 3.005 x 2.005mm, IPC High Density)
footprint TI-PWP20-3005X2005TP_M (SOP, 20-Leads, Body 6.5x4.4mm, Pitch 0.65mm, Thermal Pad 3.005 x 2.005mm, IPC Low Density)
pins: 1 NC "No connection", 2 VIN1 (power) "Input voltage of regulator 1", 3 VIN1 (power) "Input voltage of regulator 1", 4 ~{MR1} (in) "Manual reset input 1, active low, pulled up internally", 5 ~{MR2} (in) "Manual reset input 2, active low, pulled up internally", 6 ~{EN} (in) "Active low enable", 7 SEQ (in) "Power-up sequence control: SEQ = High, VOUT2 powers up first; SEQ = Low, VOUT1 powers up first. SEQ terminal pulled up internally.", 8 GND (power) "Ground", 9 VIN2 (power) "Input voltage of regulator 2", 10 VIN2 (power) "Input voltage of regulator 2", 11 NC "No connection", 12 VOUT2 (power) "Output voltage of regulator 2", 13 VOUT2 (power) "Output voltage of regulator 2", 14 VSENSE2 (in) "Regulator 2 output voltage sense", 15 ~{RESET} (hiz) "Open drain output, SVS (power-on reset) signal, active low", 16 PG1 (hiz) "Open drain output, low when VOUT1 voltage is less than 95% of the nominal regulated voltage", 17 VSENSE1 (in) "Regulator 1 output voltage sense", 18 VOUT1 (power) "Output voltage of regulator 1", 19 VOUT1 (power) "Output voltage of regulator 1", 20 NC "No connection", 21 EP (power) "Exposed Thermal Pad"